# EAGLE library part 16CONN_2MM (library bed_components)
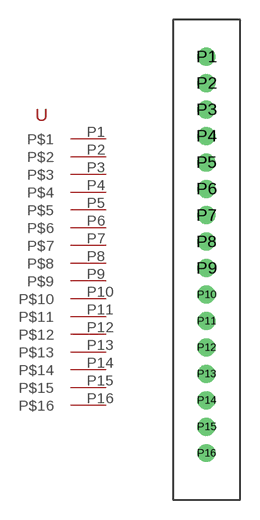
[diagram p2: symbol with the pads of 16CONN_2MM; footprint 16CONN_2MM]

Designator prefix -

## 16CONN_2MM  [16CONN_2MM]
P1  P$1
P2  P$2
P3  P$3
P4  P$4
P5  P$5
P6  P$6
P7  P$7
P8  P$8
P9  P$9
P10  P$10
P11  P$11
P12  P$12
P13  P$13
P14  P$14
P15  P$15
P16  P$16

## Footprint 16CONN_2MM (pad centres in mm)
drill 0.85: P1 -2.54,15.24; P2 -2.54,13.24; P3 -2.54,11.24; P4 -2.54,9.24; P5 -2.54,7.24; P6 -2.54,5.24; P7 -2.54,3.24; P8 -2.54,1.24; P9 -2.54,-0.76; P10 -2.54,-2.76; P11 -2.54,-4.76; P12 -2.54,-6.76; P13 -2.54,-8.76; P14 -2.54,-10.76; P15 -2.54,-12.76; P16 -2.54,-14.76